# EAGLE library part LTC2602 (library borkedlabs-dataconversion)
Dual 16-bit Rail-to-Rail DACs
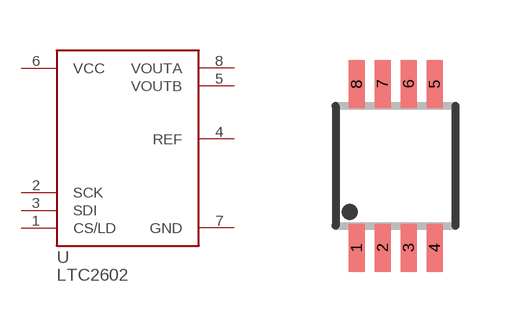
[diagram p1: symbol with the pads of MSOP8; footprint MSOP8]

Designator prefix U

## LTC2602  [MSOP8]
1  CS/LD
2  SCK
3  SDI
4  REF
5  VOUTB
6  VCC
7  GND
8  VOUTA

## Footprint MSOP8 (pad centres in mm)
MSOP8
smd 0.4 x 1.2: 1 -0.975,-2.05; 2 -0.325,-2.05; 3 0.325,-2.05; 4 0.975,-2.05; 5 0.975,2.05; 6 0.325,2.05; 7 -0.325,2.05; 8 -0.975,2.05